# Altium footprint library CANLED_PCBLIB.PcbLib: 11 footprints
Each footprint in its own frame and in the unit in brackets; x right, y up, seen from the top. Pads: shape width x height; smd on the part's side, far side on the other; paste and mask are expansions set on the pad; w line width, h text height; cw(c..) or ccw(c..) is an arc to the next point about the centre after c.
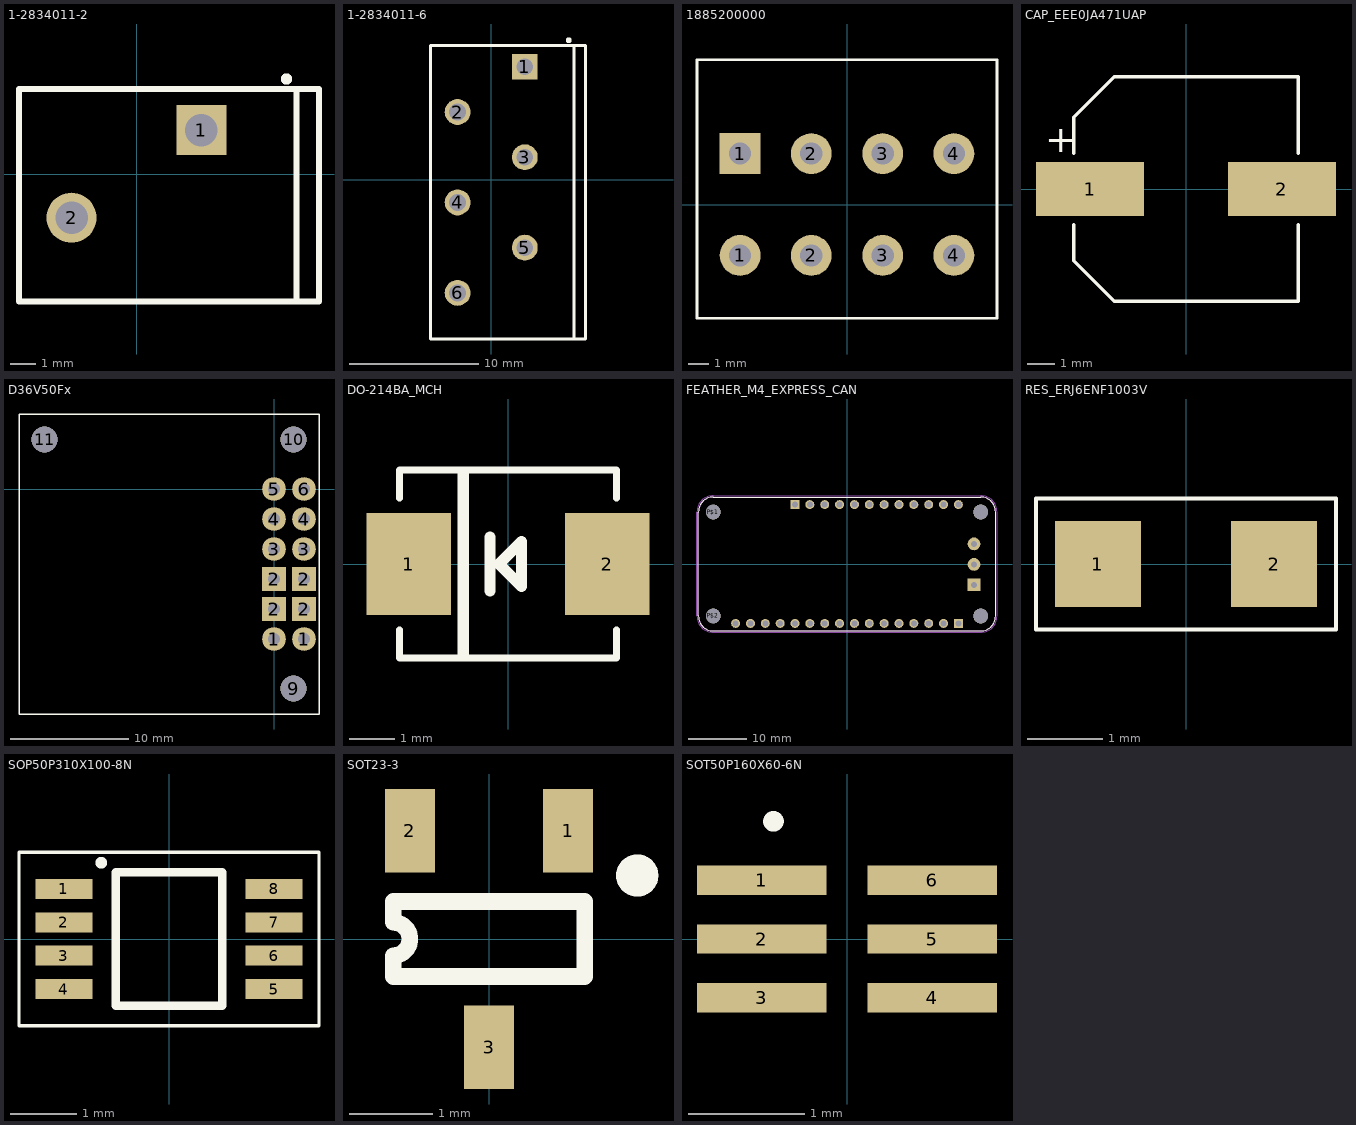
[diagram p0: the footprints below, top view; thin cyan lines are the x and y axes]

## 1-2834011-2 [mm]
pads (2):
  rect 2x2 hole 1.3: 1(2.6,1.75)
  round 2 hole 1.3: 2(-2.6,-1.75)
Top Overlay:
  circle w0.254: c6,3.8 r0.1
  lines w0.254: 6.4,-5.1 6.4,3.4 ; -4.7,-5.1 -4.7,3.4 7.3,3.4 7.3,-5.1 -4.7,-5.1
3D body "c-1-2834011-2-2-3d.stp": height 12.94, standoff -3.49, extent -4.7,-5.15 7.3,3.35

## 1-2834011-6 [mm]
pads (6):
  rect 2x2 hole 1.3: 1(2.6,8.75)
  round 2 hole 1.3: 2(-2.6,5.25) 3(2.6,1.75) 4(-2.6,-1.75) 5(2.6,-5.25) 6(-2.6,-8.75)
Top Overlay:
  circle w0.254: c6,10.8 r0.1
  lines w0.254: 6.4,-12.192 6.4,10.4 ; -4.7,-12.319 -4.7,10.4 7.3,10.4 7.3,-12.319 -4.7,-12.319
3D body "c-1-2834011-6-2-3d.stp": height 12.94, standoff -3.49, extent -4.73,-12.266 7.27,10.234

## 1885200000 [mm]
pads (8):
  round 2 hole 1.092: 1(-5.25,-2.5) 2(-1.75,-2.5) 2(-1.75,2.5) 3(1.75,-2.5) 3(1.75,2.5) 4(5.25,-2.5) 4(5.25,2.5)
  rect 2x2 hole 1.092: 1(-5.25,2.5)
Top Overlay:
  lines w0.127: -7.366,-5.588 -7.366,7.112 7.366,7.112 7.366,-5.588 -7.366,-5.588
3D body "1885200000.stp": height 13.17, standoff -1.49, extent -7.366,-5.588 7.334,7.112

## CAP_EEE0JA471UAP [mm]
pads (2):
  rect 4x2 smd: 1(-3.55,0) 2(3.55,0)
Top Overlay:
  lines w0.127: -4.15,-1.32 -4.15,-2.65 -2.65,-4.15 4.15,-4.15 4.15,-1.32 ; -4.15,1.32 -4.15,2.65 -2.65,4.15 4.15,4.15 4.15,1.32
  text "+" at -5.207,1.355 h1.02
3D body "step_temp.STEP": height 10.2, standoff 0, extent -4.85,-4.15 4.85,4.15

## D36V50Fx [mm]
pads (15):
  round 2 hole 1.02: 1(0,-12.7) 1(2.54,-12.7) 3(0,-5.08) 3(2.54,-5.08) 4(0,-2.54) 4(2.54,-2.54) 5(0,0) 6(2.54,0)
  rect 2x2 hole 1.02: 2(0,-10.16) 2(0,-7.62) 2(2.54,-10.16) 2(2.54,-7.62)
  round 2.184 hole 2.184: 9(1.651,-16.891) 10(1.651,4.191) 11(-19.431,4.191)
Top Overlay:
  lines w0.127: -21.59,-19.05 3.81,-19.05 3.81,6.35 -21.59,6.35 -21.59,-19.05
3D body "ZW-06-07-T-D-200-125.stp": height 7.76, standoff -3.16, extent -1.27,-13.97 3.81,1.27
3D body "d36v50fx-step-down-voltage-regulator.step": height 12.77, standoff 3.29, extent -21.59,-19.05 3.81,6.35

## DO-214BA_MCH [mil]
pads (2):
  rect 74x89 smd paste+0 mask+0: 1(-87,0) 2(87,0)
Top Overlay:
  lines w6: -95,-57.6 -95,-82.5 95,-82.5 95,-57.6 ; -95,57.6 -95,82.5 95,82.5 95,57.6
  lines w10: -39.37,-78.74 -39.37,78.74 ; -15.75,-23.62 -15.75,23.62 ; 11.81,19.68 11.81,19.68 ; 11.81,19.68 -7.87,0 11.81,-19.69 11.81,19.68
3D body "DO-214BA.STEP": height 116.74, standoff 0.5, extent -103.35,-51.18 103.35,51.18
3D body: height 10, standoff 0, extent 11.81,-19.69 21.81,-9.69

## FEATHER_M4_EXPRESS_CAN [mm]
pads (35):
  rect 1.53x1.53 hole 1.02: P1_1(19.05,-10.16) P2_1(-8.89,10.16)
  round 1.53 hole 1.02: P1_2(16.51,-10.16) P1_3(13.97,-10.16) P1_4(11.43,-10.16) P1_5(8.89,-10.16) P1_6(6.35,-10.16) P1_7(3.81,-10.16) P1_8(1.27,-10.16) P1_9(-1.27,-10.16) P1_10(-3.81,-10.16) P1_11(-6.35,-10.16) P1_12(-8.89,-10.16) P1_13(-11.43,-10.16) P1_14(-13.97,-10.16) P1_15(-16.51,-10.16) P1_16(-19.05,-10.16) P2_2(-6.35,10.16) P2_3(-3.81,10.16) P2_4(-1.27,10.16) P2_5(1.27,10.16) P2_6(3.81,10.16) P2_7(6.35,10.16) P2_8(8.89,10.16) P2_9(11.43,10.16) P2_10(13.97,10.16) P2_11(16.51,10.16) P2_12(19.05,10.16)
  rect 2.184x2.184 hole 1: P3_1(21.717,-3.564)
  round 2.184 hole 1: P3_2(21.717,-0.064) P3_3(21.717,3.437)
  round 2.5 hole 2.5: P$1(-22.86,8.89) P$2(-22.86,-8.89)
  round 2.54 hole 2.54: ""(22.86,-8.89) ""(22.86,8.89)
Top Overlay:
  lines w0.127: -25.4,-8.89 ccw(c-22.86,-8.89) -22.86,-11.43 22.86,-11.43 ccw(c22.86,-8.89) 25.4,-8.89 25.4,8.89 ccw(c22.86,8.89) 22.86,11.43 -22.86,11.43 ccw(c-22.86,8.89) -25.4,8.89 -25.4,-8.89
Mechanical 13:
  lines w0.127: -25.4,-8.89 ccw(c-22.86,-8.89) -22.86,-11.43 22.86,-11.43 ccw(c22.86,-8.89) 25.4,-8.89 25.4,8.89 ccw(c22.86,8.89) 22.86,11.43 -22.86,11.43 ccw(c-22.86,8.89) -25.4,8.89 -25.4,-8.89
Mechanical 15:
  lines w0.05: -25.65,-8.89 ccw(c-22.86,-8.89) -22.86,-11.68 22.86,-11.68 ccw(c22.86,-8.89) 25.65,-8.89 25.65,8.89 ccw(c22.86,8.89) 22.86,11.68 -22.86,11.68 ccw(c-22.86,8.89) -25.65,8.89 -25.65,-8.89
3D body "DW-01-07-T-S-200.stp": height 8.14, standoff -2.78, extent 20.447,-1.262 22.987,1.278
3D body "DW-12-07-T-S-200.stp": height 8.14, standoff -2.78, extent -10.16,8.89 20.32,11.43
3D body "DW-16-07-T-S-200.stp": height 8.14, standoff -2.78, extent -20.32,-11.43 20.32,-8.89
3D body "DW-01-07-T-S-200.stp": height 8.14, standoff -2.78, extent 20.447,2.167 22.987,4.707
3D body "DW-01-07-T-S-200.stp": height 8.14, standoff -2.78, extent 20.447,-4.818 22.987,-2.278
3D body "3857 Adafruit Feather M4 Express.step": height 9.89, standoff 3.52, extent -25.455,-11.43 25.4,11.43

## RES_ERJ6ENF1003V [mm]
pads (2):
  rect 1.15x1.15 smd: 1(-1.175,0) 2(1.175,0)
Top Overlay:
  lines w0.05: -2,-0.875 -2,0.875 2,0.875 2,-0.875 -2,-0.875
3D body "ERJ6ENF1003V.STEP": height 0.61, standoff 0.01, extent -1,-0.625 1,0.625

## SOP50P310X100-8N [mm]
pads (8):
  rect 0.85x0.3 smd: 1(-1.575,0.75) 2(-1.575,0.25) 3(-1.575,-0.25) 4(-1.575,-0.75) 5(1.575,-0.75) 6(1.575,-0.25) 7(1.575,0.25) 8(1.575,0.75)
Top Overlay:
  circle w0.127: c-1.016,1.143 r0.025
  lines w0.05: -2.25,-1.3 -2.25,1.3 2.25,1.3 2.25,-1.3 -2.25,-1.3
  lines w0.127: -0.8,-1 -0.8,1 0.8,1 0.8,-1 -0.8,-1
3D body "step_temp.STEP": height 1, standoff 0, extent -1.55,-1 1.55,1

## SOT23-3 [mm] "SOT23-3"
pads (3):
  rect 0.6x1 smd: 1(0.95,1.3) 2(-0.95,1.3) 3(0,-1.3)
Top Overlay:
  circle w0.254: c1.778,0.762 r0.127
  lines w0.2: -1.15,-0.45 1.15,-0.45 1.15,0.45 -1.15,0.45 -1.15,0.2 cw(c-1.15,0) -1.15,-0.2 -1.15,-0.45
3D body "SOT23-3.step": height 1.3, standoff 0, extent -1.45,-1.4 1.45,1.4

## SOT50P160X60-6N [mil]
pads (6):
  rect 44x10 smd: 1(-29,20) 2(-29,0) 3(-29,-20) 4(29,-20) 5(29,0) 6(29,20)
Top Overlay:
  circle w5: c-25,40 r1
3D body "step_temp.STEP": height 23.62, standoff 0, extent -31.5,-31.5 31.5,31.5